# Altium schematic symbol library RPi_sensor_expansion_board_library.SchLib: 10 symbols
Pins are listed as number, name and electrical type; pins without a type are passive.

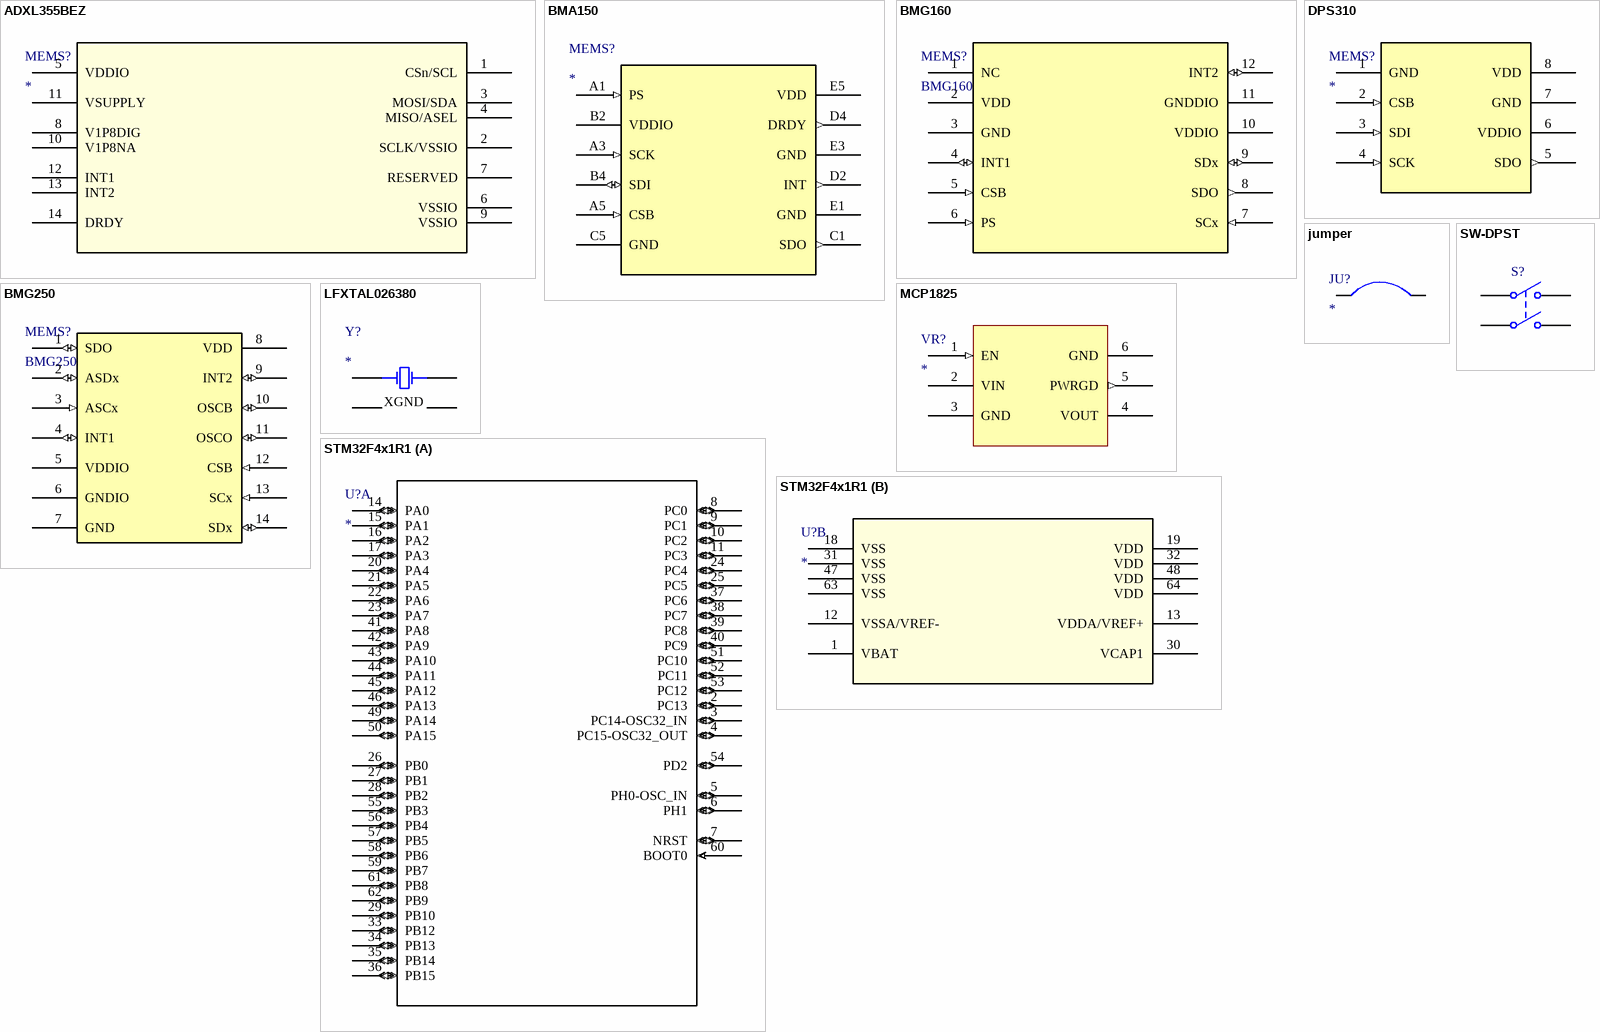
[diagram p0: symbols ADXL355BEZ to SW-DPST]

## ADXL355BEZ
designator MEMS?
Imported; Value: Value; Type: Type; RefDes: RefDes
footprint E_14_1
pins: 1 CSn/SCL, 2 SCLK/VSSIO, 3 MOSI/SDA, 4 MISO/ASEL, 5 VDDIO, 6 VSSIO, 7 RESERVED, 8 V1P8DIG, 9 VSSIO, 10 V1P8NA, 11 VSUPPLY, 12 INT1, 13 INT2, 14 DRDY

## BMA150
designator MEMS?
footprint BGA12-BOSCH
pins: A1 PS (in) "Protocol select", A3 SCK (in), A5 CSB (in), B2 VDDIO (power), B4 SDI (io), C1 SDO (out), C5 GND (power), D2 INT (out), D4 DRDY (out), E1 GND (power), E3 GND (power), E5 VDD (power)

## BMG160
designator MEMS?
footprint LGA12-BOSCH
pins: 1 NC, 2 VDD (power), 3 GND (power), 4 INT1 (io), 5 CSB (in), 6 PS (in), 7 SCx (in), 8 SDO (out), 9 SDx (io), 10 VDDIO (power), 11 GNDDIO (power), 12 INT2 (io)

## BMG250
designator MEMS?
footprint LGA14-BOSCH
pins: 1 SDO (io), 2 ASDx (io), 3 ASCx (in), 4 INT1 (io), 5 VDDIO (power), 6 GNDIO (power), 7 GND (power), 8 VDD (power), 9 INT2 (io), 10 OSCB (io), 11 OSCO (io), 12 CSB (in), 13 SCx (in), 14 SDx (io)

## DPS310
designator MEMS?
footprint PG-VLGA-8-1
pins: 1 GND (power), 2 CSB (in), 3 SDI (in), 4 SCK (in), 5 SDO (out), 6 VDDIO, 7 GND (power), 8 VDD (power)

## jumper
designator JU?
footprint JMPRX2 (Jumper; Header; 2 Position)

## LFXTAL026380
designator Y?
footprint 12SMX-B (B-type 12SMX crystal package)
pins: 1 OSC1, 2 OSC2, 3 OSC2, 4 OSC1
text: XGND

## MCP1825
designator VR?
3.3V Voltage regulator
footprint SOT-223-6
pins: 1 EN (in), 2 VIN (power), 3 GND (power), 4 VOUT (power), 5 PWRGD (out), 6 GND (power)

## STM32F4x1R1
designator U?
Imported; Manufacturer_Part_Number: stm32f4x1r1; Vendor: STMicroelectronics; C: Copyright (C) 2016 Accelerated Designs. All rights reserved; Copyright: Copyright (C) 2016 Accelerated Designs. All rights reserved; RefDes: RefDes; Type: Type; Value: Value
footprint LQFP64-10x10mm
part A pins: 2 PC13 (io), 3 PC14-OSC32_IN (io), 4 PC15-OSC32_OUT (io), 5 PH0-OSC_IN (io), 6 PH1 (io), 7 NRST (io), 8 PC0 (io), 9 PC1 (io), 10 PC2 (io), 11 PC3 (io), 14 PA0 (io), 15 PA1 (io), 16 PA2 (io), 17 PA3 (io), 20 PA4 (io), 21 PA5 (io), 22 PA6 (io), 23 PA7 (io), 24 PC4 (io), 25 PC5 (io), 26 PB0 (io), 27 PB1 (io), 28 PB2 (io), 29 PB10 (io), 33 PB12 (io), 34 PB13 (io), 35 PB14 (io), 36 PB15 (io), 37 PC6 (io), 38 PC7 (io), 39 PC8 (io), 40 PC9 (io), 41 PA8 (io), 42 PA9 (io), 43 PA10 (io), 44 PA11 (io), 45 PA12 (io), 46 PA13 (io), 49 PA14 (io), 50 PA15 (io), 51 PC10 (io), 52 PC11 (io), 53 PC12 (io), 54 PD2 (io), 55 PB3 (io), 56 PB4 (io), 57 PB5 (io), 58 PB6 (io), 59 PB7 (io), 60 BOOT0 (in), 61 PB8 (io), 62 PB9 (io)
part B pins: 1 VBAT (power), 12 VSSA/VREF- (power), 13 VDDA/VREF+ (power), 18 VSS (power), 19 VDD (power), 30 VCAP1 (power), 31 VSS (power), 32 VDD (power), 47 VSS (power), 48 VDD (power), 63 VSS (power), 64 VDD (power)

## SW-DPST
designator S?
Double-Pole, Single-Throw Switch; Published: 24-Mar-1999; LatestRevisionDate: 17-Jul-2002; LatestRevisionNote: Re-released for DXP Platform.; PackageReference: DPST-4; Publisher: Altium Limited; PackageDescription: Switch; 4 Leads
footprint TACT_SWITCH (6x6 mm SMT tact switch footprint)
pins: 1 COMMON1, 2 NO1, 3 COMMON2, 4 NO2